# Altium footprint library VLS3015CX.PcbLib: 1 footprints
Each footprint in its own frame and in the unit in brackets; x right, y up, seen from the top. Pads: shape width x height; smd on the part's side, far side on the other; paste and mask are expansions set on the pad; w line width, h text height; cw(c..) or ccw(c..) is an arc to the next point about the centre after c.
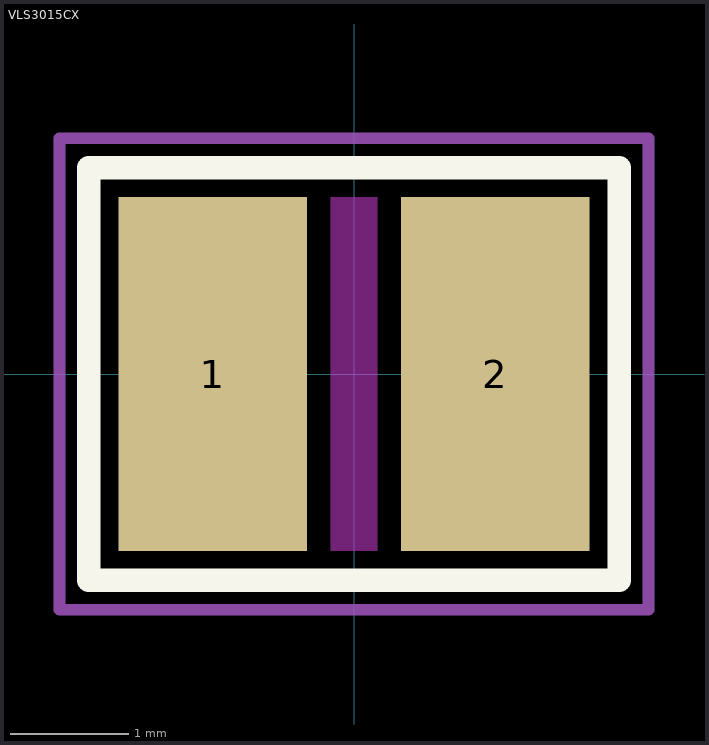
[diagram p0: the footprint, top view; thin cyan lines are the x and y axes]

## VLS3015CX [mm]
pads (2):
  rect 1.6x3 smd: 1(-1.2,0) 2(1.2,0)
Top Layer keep-out:
  rectangle: -0.2,-1.5 0.2,1.5
Top Overlay:
  lines w0.2: -2.25,-1.75 2.25,-1.75 2.25,1.75 -2.25,1.75 -2.25,-1.75
Top Courtyard:
  lines w0.1: -2.5,-2 2.5,-2 2.5,2 -2.5,2 -2.5,-2
3D body "vls3015cx-h.step": height 1.49, standoff -0.01, extent -1.505,-1.509 1.505,1.509